# EAGLE library part REF1004 (library DAC714p)
Micropower Voltage Reference
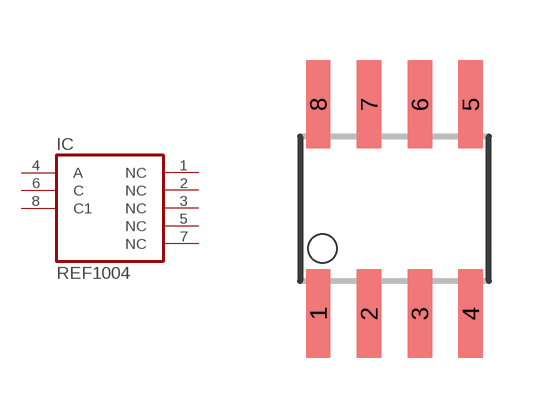
[diagram p115: symbol with the pads of SO08; footprint SO08]

Designator prefix IC

## REF1004U (MF: TEXAS INSTRUMENTS; MPN: REF1004C-1.2; OC_FARNELL: 1296022; OC_NEWARK: 75C7399)  [SO08]
1  NC  nc
2  NC  nc
3  NC  nc
4  A  pas
5  NC  nc
6  C  pas
7  NC  nc
8  C1  pas

## Footprint SO08 (pad centres in mm)
Small Outline Package
smd 0.61 x 2.21: 1 -1.905,-2.616; 2 -0.635,-2.616; 3 0.635,-2.616; 4 1.905,-2.616; 5 1.905,2.616; 6 0.635,2.616; 7 -0.635,2.616; 8 -1.905,2.616